# EAGLE library part 74*245 (library ICs_74HC_Series)
Octal BUS TRANSCEIVER, 3-state
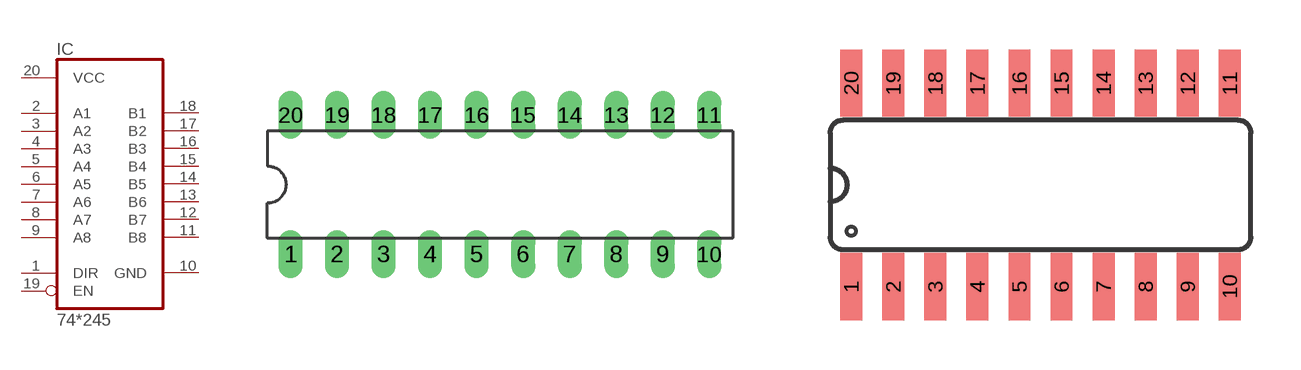
[diagram p3: symbol with the pads of 20-DIP; footprints 20-DIP, 20-SOIC]

Designator prefix IC

## 74HC245N  [20-DIP]
1  DIR  in
2  A1
3  A2
4  A3
5  A4
6  A5
7  A6
8  A7
9  A8
10  GND
11  B8
12  B7
13  B6
14  B5
15  B4
16  B3
17  B2
18  B1
19  EN  in
20  VCC

## 74HC245DW  [20-SOIC]
Pads as for 20-DIP

## 74HC245PW  [20-TSSOP]
Pads as for 20-DIP

## Footprint 20-DIP (pad centres in mm)
Dual In Line Package
drill 0.813 long: 1 0,0; 2 2.54,0; 3 5.08,0; 4 7.62,0; 5 10.16,0; 6 12.7,0; 7 15.24,0; 8 17.78,0; 9 20.32,0; 10 22.86,0; 11 22.86,7.62; 12 20.32,7.62; 13 17.78,7.62; 14 15.24,7.62; 15 12.7,7.62; 16 10.16,7.62; 17 7.62,7.62; 18 5.08,7.62; 19 2.54,7.62; 20 0,7.62

## Footprint 20-SOIC (pad centres in mm)
Small Outline package 150 mil
smd 0.66 x 2.032: 1 0,-0.025; 2 1.27,-0.025; 3 2.54,-0.025; 4 3.81,-0.025; 5 5.08,-0.025; 6 6.35,-0.025; 7 7.62,-0.025; 8 8.89,-0.025; 9 10.16,-0.025; 10 11.43,-0.025; 11 11.43,6.121; 12 10.16,6.121; 13 8.89,6.121; 14 7.62,6.121; 15 6.35,6.121; 16 5.08,6.121; 17 3.81,6.121; 18 2.54,6.121; 19 1.27,6.121; 20 0,6.121

## Footprint 20-TSSOP (pad centres in mm)
smd 0.3 x 1.6: 1 -0.004,-0.006; 2 0.646,-0.006; 3 1.296,-0.006; 4 1.946,-0.006; 5 2.596,-0.006; 6 3.246,-0.006; 7 3.896,-0.006; 8 4.546,-0.006; 9 5.196,-0.006; 10 5.846,-0.006; 11 5.846,5.594; 12 5.196,5.594; 13 4.546,5.594; 14 3.896,5.594; 15 3.246,5.594; 16 2.596,5.594; 17 1.946,5.594; 18 1.296,5.594; 19 0.646,5.594; 20 -0.004,5.594